# EAGLE library part ST1S10PHR (library ST1S10PHR)
mada by Sabre
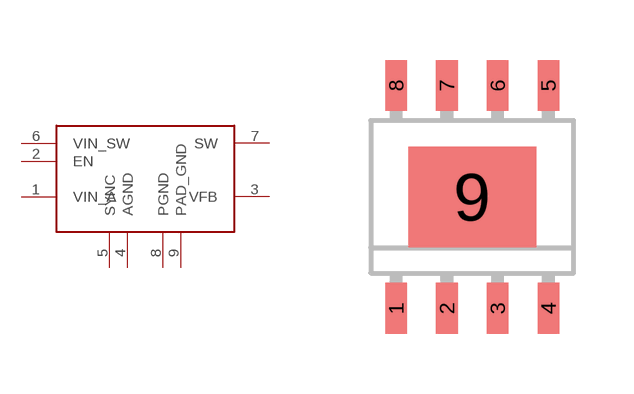
[diagram p0: symbol with the pads of HSOP8; footprint HSOP8]

Designator prefix -

## ST1S10PHR  [HSOP8]
1  VIN_A
2  EN
3  VFB
4  AGND
5  SYNC
6  VIN_SW
7  SW
8  PGND
9  PAD_GND

## Footprint HSOP8 (pad centres in mm)
smd 0.54 x 1.27: 1 -1.905,-2.785; 2 -0.635,-2.785; 3 0.635,-2.785; 4 1.905,-2.785; 5 1.905,2.785; 6 0.635,2.785; 7 -0.635,2.785; 8 -1.905,2.785
smd 3.2 x 2.51: 9 0,0